# EAGLE library part THVD1426DR (library THVD1426DR)
RS-422/RS-485 Interface IC 3.3-V to 5-V 12-Mbps half-duplex RS-485 transceiver auto-direction control ±12-kV IEC ESD Source: Datasheet <https://www.ti.com/jp/lit/ds/symlink/thvd1426.pdf?ts=1676878246969&ref_url=https%3A%2F%2Fwww.ti.com%2Fproduct%2Fja-jp%2FTHVD1426>
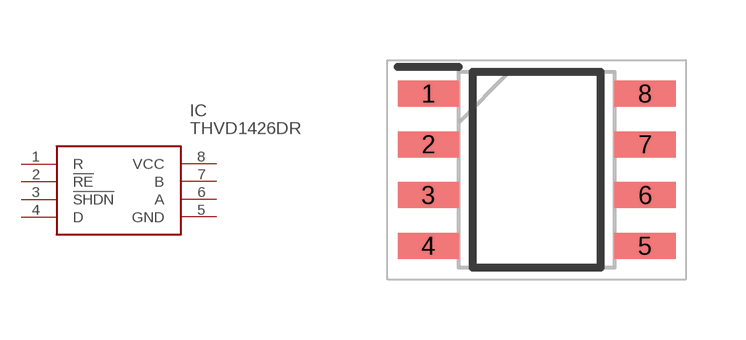
[diagram p0: symbol with the pads of SOIC127P600X175-8N; footprint SOIC127P600X175-8N]

Designator prefix IC

## THVD1426DR (Description: RS-422/RS-485 Interface IC 3.3-V to 5-V 12-Mbps half-duplex RS-485 transceiver auto-direction control &plusmn;12-kV IEC ESD; Height: 1.75mm; Manufacturer_Name: Texas Instruments; Manufacturer_Part_Number: THVD1426DR; Mouser_Part_Number: 595-THVD1426DR; Mouser_Price-Stock: https://www.mouser.co.uk/ProductDetail/Texas-Instruments/THVD1426DR?qs=Li%252BoUPsLEnvtMAmClTMmaw%3D%3D)  [SOIC127P600X175-8N]
1  R
2  !RE
3  !SHDN
4  D
5  GND
6  A
7  B
8  VCC

## Footprint SOIC127P600X175-8N (pad centres in mm)
D
smd 1.528 x 0.65: 1 -2.711,1.905; 2 -2.711,0.635; 3 -2.711,-0.635; 4 -2.711,-1.905; 5 2.711,-1.905; 6 2.711,-0.635; 7 2.711,0.635; 8 2.711,1.905